# EAGLE library part СНП333-44 (library connectors)
РЮМК.430420.010 ТУ ХАРАКТЕРИСТИКИ Климатическое исполнение – УХЛ 2.1 «В» по ГОСТ В 20.39.404. Количество контактов: 26, 44, 62. Рабочий ток на каждый контакт соединителя при равномерной нагрузке не более 1А. При этом отдельные (несоседние) контакты наружных рядов допускается нагружать током 2А. Остальные контакты в этом случае допускается нагружать током не более 0,7 А. Максимальное рабочее напряжение – 100 В. Сопротивление контактов должно быть не более 20 мОм. Для экранированных соединителей эффективность экранирования должна быть не менее 40 дБ на частоте 0,6 ГГц. Электрическая прочность изоляции 500 В. Покрытие рабочей части контактов: золото, серебро. Смена температур: от максимальной температуры соединителя 115 о С для соединителей без кожуха и в неэкранированном кожухе; 90 о С для соединителей в экранированном кожухе до пониженной рабочей температуры среды минус 65 о. Минимальная наработка: 20000 часов – с золотым покрытием 15000 часов – с серебряным покрытием Срок сохраняемости – 20 лет. Производитель: АО «Карачевский завод "Электродеталь" 242500 Брянская область, г. Карачев, ул. Горького, 1
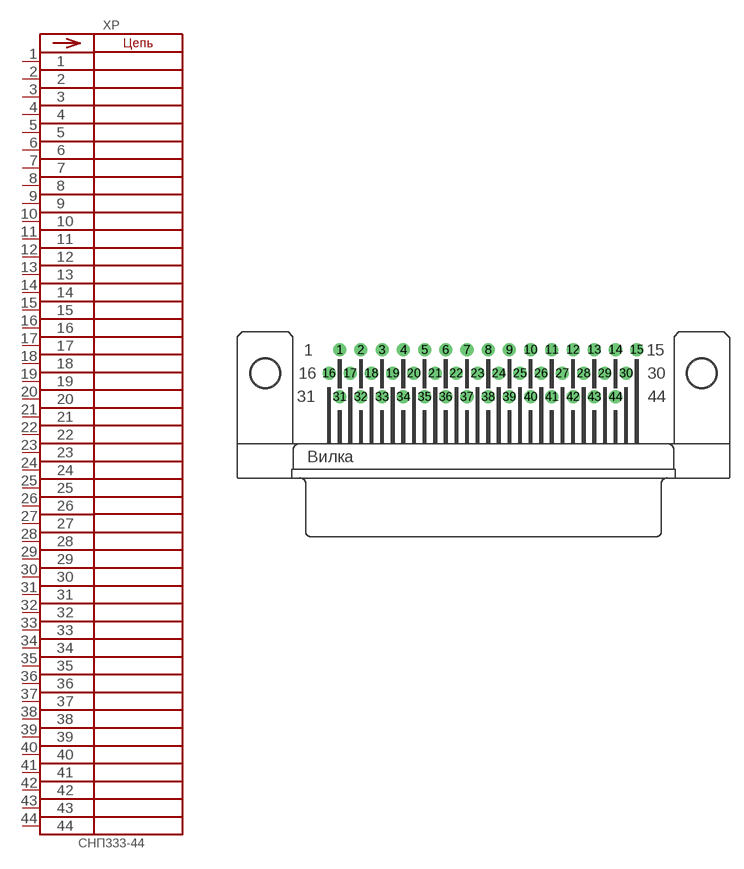
[diagram p1: symbol with the pads of СНП333-44; footprint СНП333-44]

Designator prefix XP

## СНП333-44РП31-1-В  [СНП333-44]
1  1  pas
2  2  pas
3  3  pas
4  4  pas
5  5  pas
6  6  pas
7  7  pas
8  8  pas
9  9  pas
10  10  pas
11  11  pas
12  12  pas
13  13  pas
14  14  pas
15  15  pas
16  16  pas
17  17  pas
18  18  pas
19  19  pas
20  20  pas
21  21  pas
22  22  pas
23  23  pas
24  24  pas
25  25  pas
26  26  pas
27  27  pas
28  28  pas
29  29  pas
30  30  pas
31  31  pas
32  32  pas
33  33  pas
34  34  pas
35  35  pas
36  36  pas
37  37  pas
38  38  pas
39  39  pas
40  40  pas
41  41  pas
42  42  pas
43  43  pas
44  44  pas

## СНП333-44РП31-3-В  [СНП333-44]
Pads as for СНП333-44

## Footprint СНП333-44 (pad centres in mm)
drill 0.9: 1 -15.497,2.54; 2 -13.211,2.54; 3 -10.925,2.54; 4 -8.639,2.54; 5 -6.353,2.54; 6 -4.067,2.54; 7 -1.781,2.54; 8 0.505,2.54; 9 2.791,2.54; 10 5.077,2.54; 11 7.363,2.54; 12 9.649,2.54; 13 11.935,2.54; 14 14.221,2.54; 15 16.507,2.54; 16 -16.64,0; 17 -14.354,0; 18 -12.068,0; 19 -9.782,0; 20 -7.496,0; 21 -5.21,0; 22 -2.924,0; 23 -0.638,0; 24 1.648,0; 25 3.934,0; 26 6.22,0; 27 8.506,0; 28 10.792,0; 29 13.078,0; 30 15.364,0; 31 -15.497,-2.54; 32 -13.211,-2.54; 33 -10.925,-2.54; 34 -8.639,-2.54; 35 -6.353,-2.54; 36 -4.067,-2.54; 37 -1.781,-2.54; 38 0.505,-2.54; 39 2.791,-2.54; 40 5.077,-2.54; 41 7.363,-2.54; 42 9.649,-2.54; 43 11.935,-2.54; 44 14.221,-2.54
hole 3 at -23.52,0
hole 3 at 23.52,0